# Altium footprint library Fuse.PcbLib: 5 footprints
Each footprint in its own frame and in the unit in brackets; x right, y up, seen from the top. Pads: shape width x height; smd on the part's side, far side on the other; paste and mask are expansions set on the pad; w line width, h text height; cw(c..) or ccw(c..) is an arc to the next point about the centre after c.
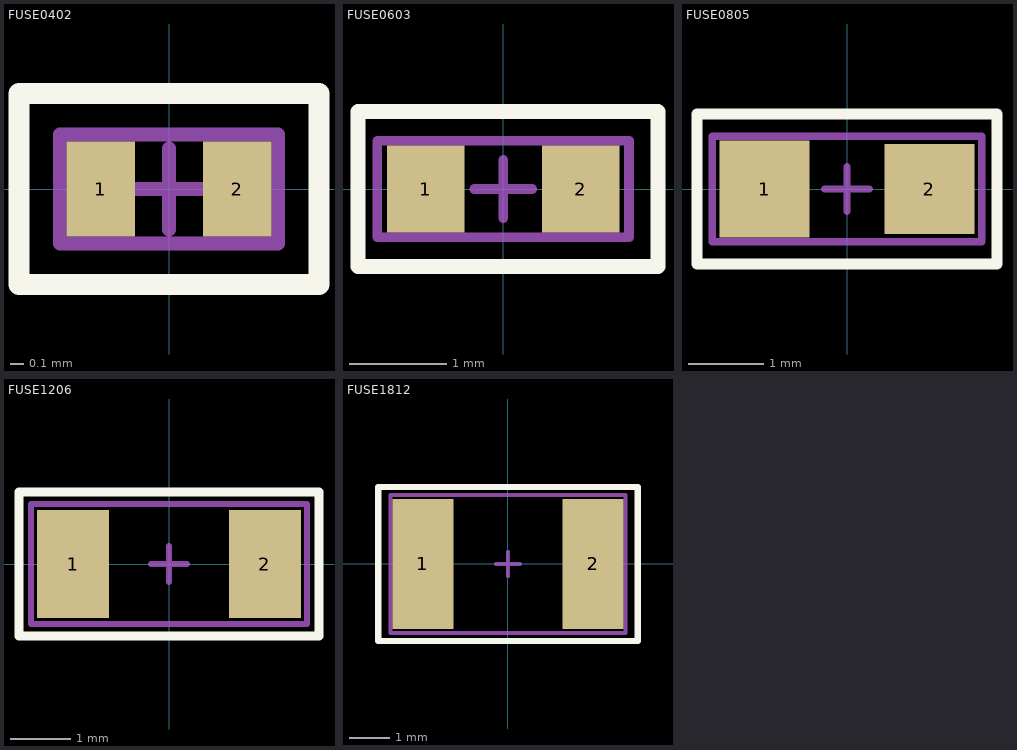
[diagram p0: the footprints below, top view; thin cyan lines are the x and y axes]

## FUSE0402 [mm]
pads (2):
  rect 0.5x0.7 smd: 1(-0.5,0) 2(0.5,0)
Top Overlay:
  lines w0.153: -1.1,-0.7 -1.1,0.7 1.1,0.7 1.1,-0.7 -1.1,-0.7
Top Assembly:
  lines w0.1: -0.8,-0.4 0.8,-0.4 0.8,0.4 -0.8,0.4 -0.8,-0.4
  text "'.Designator'" at -4.532,-0.333 h0.8
Mechanical 15:
  lines w0.1: -0.3,0 0.3,0 ; 0,-0.3 0,0.3 ; -0.8,-0.4 -0.8,0.4 0.8,0.4 0.8,-0.4 -0.8,-0.4
3D body "User Library-FUSE0402-1.step": height 0.33, standoff 0, extent -0.5,-0.25 0.5,0.25

## FUSE0603 [mm]
pads (2):
  rect 0.8x0.9 smd: 1(-0.8,0) 2(0.8,0)
Top Overlay:
  lines w0.153: -1.5,-0.8 -1.5,0.8 1.6,0.8 1.6,-0.8 -1.5,-0.8
Top Assembly:
  lines w0.1: -1.3,-0.5 -1.3,0.5 1.3,0.5 1.3,-0.5 -1.3,-0.5
  text "'.Designator'" at -4.532,-0.333 h0.8
Mechanical 15:
  lines w0.1: -0.3,0 0.3,0 ; 0,-0.3 0,0.3 ; -1.3,-0.5 -1.3,0.5 1.3,0.5 1.3,-0.5 -1.3,-0.5
3D body "User Library-MF-FSMF020X_FUSE0603.step": height 0.53, standoff 0, extent -0.825,-0.425 0.825,0.425

## FUSE0805 [mm]
pads (2):
  rect 1.2x1.3 smd: 1(-1.1,0)
  rect 1.2x1.2 smd: 2(1.1,0)
Top Overlay:
  lines w0.153: -2,-1 -2,1 2,1 2,-1 -2,-1
Top Assembly:
  lines w0.1: -1.8,-0.7 1.8,-0.7 1.8,0.7 -1.8,0.7 -1.8,-0.7
  text "'.Designator'" at -4.532,-0.333 h0.8
Mechanical 15:
  lines w0.1: -0.3,0 0.3,0 ; 0,-0.3 0,0.3 ; -1.8,-0.7 1.8,-0.7 1.8,0.7 -1.8,0.7 -1.8,-0.7
3D body "User Library-Part1-227.step": height 0.86, standoff -0.01, extent -1.15,-0.75 1.15,0.75

## FUSE1206 [mm]
pads (2):
  rect 1.2x1.8 smd: 1(-1.6,0) 2(1.6,0)
Top Overlay:
  lines w0.153: -2.5,-1.2 -2.5,1.2 2.5,1.2 2.5,-1.2 -2.5,-1.2
Top Assembly:
  lines w0.1: -2.3,-1 -2.3,1 2.3,1 2.3,-1 -2.3,-1
  text "'.Designator'" at -4.532,-0.333 h0.8
Mechanical 15:
  lines w0.1: -0.3,0 0.3,0 ; 0,-0.3 0,0.3 ; -2.3,-1 -2.3,1 2.3,1 2.3,-1 -2.3,-1
3D body "User Library-0ZCJ0035FF2G.step": height 0.8, standoff 0, extent -1.7,-0.85 1.7,0.85

## FUSE1812 [mm]
pads (2):
  rect 1.5x3.2 smd: 1(-2.1,0) 2(2.1,0)
Top Overlay:
  lines w0.153: -3.2,-1.9 3.2,-1.9 3.2,1.9 -3.2,1.9 -3.2,-1.9
Top Assembly:
  lines w0.1: -2.9,-1.7 -2.9,1.7 2.9,1.7 2.9,-1.7 -2.9,-1.7
  text "'.Designator'" at -4.532,-0.333 h0.8
Mechanical 15:
  lines w0.1: -0.3,0 0.3,0 ; 0,-0.3 0,0.3 ; -2.9,-1.7 2.9,-1.7 2.9,1.7 -2.9,1.7 -2.9,-1.7
3D body "Fuse_Bourns_MF-MSMF050-2_eec.STEP": height 0.85, standoff 0, extent -2.275,-1.62 2.275,1.62